# Altium schematic symbol library FG24X7R1E475KRT06.SchLib: 1 symbol
Pins are listed as number, name and electrical type; pins without a type are passive.

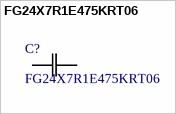
[diagram p0: symbol FG24X7R1E475KRT06]

## FG24X7R1E475KRT06
designator C?
Description; Manufacturer_Name: TDK; Copyright: Copyright (C) 2026 Ultra Librarian. All rights reserved.; Manufacturer_Part_Number: FG24X7R1E475KRT06
footprint CAP_FG24_TDK
pins: 1, 2